# Altium footprint library W 稳压管.PcbLib: 5 footprints
Each footprint in its own frame and in the unit in brackets; x right, y up, seen from the top. Pads: shape width x height; smd on the part's side, far side on the other; paste and mask are expansions set on the pad; w line width, h text height; cw(c..) or ccw(c..) is an arc to the next point about the centre after c.
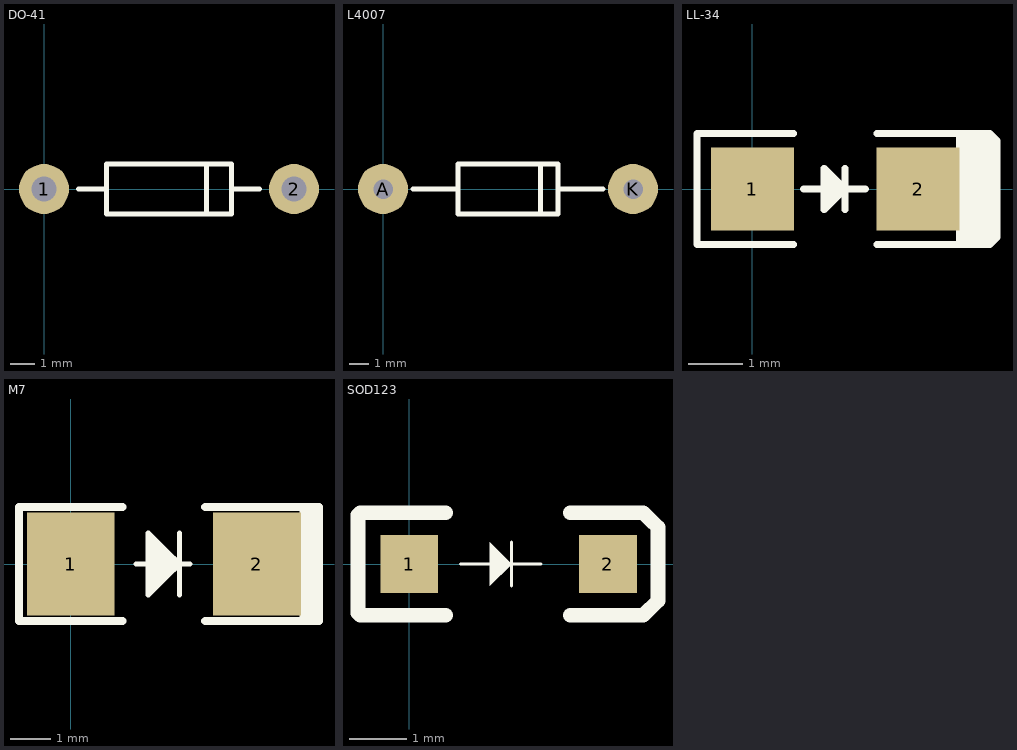
[diagram p0: the footprints below, top view; thin cyan lines are the x and y axes]

## DO-41 [mil] "二极管"
height 220.47
pads (2):
  round 80 hole 40: 1(0,0) 2(400,0)
Top Overlay:
  lines w8: 55,0 100,0 ; 260,-40 260,40 ; 300,0 345,0 ; 100,-40 300,-40 300,40 100,40 100,-40

## L4007 [mil]
pads (2):
  round 100 hole 39: A(0,0) K(500,0)
Top Overlay:
  lines w10: 60,0 150,0 ; 315,-50 315,50 ; 350,0 440,0 ; 150,-50 350,-50 350,50 150,50 150,-50

## LL-34 [mil] "贴片二极管"
pads (2):
  rect 60x60 smd: 1(0,0) 2(120,0)
Top Overlay:
  lines w5: 30,-40 -40,-40 -40,40 30,40 ; 37,0 82,0 ; 57,-10 57,10 ; 62,-5 62,5 ; 67,-15 67,15 ; 90,-40 172,-40 ; 90,40 172,40 ; 150,-40 150,40 ; 154,-40 154,40 ; 158,-40 158,40 ; 163,-40 163,40 ; 167,-40 167,40 ; 172,-40 177,-35 177,35 172,40 ; 172,-40 172,40 ; 52,-15 52,15 67,0 52,-15

## M7 [mil]
pads (2):
  rect 85x100 smd: 1(0,0) 2(180,0)
Top Overlay:
  lines w5: 62.94,0 115,0 ; 80,-25 80,25 ; 85,-20 85,20 ; 90,-15 90,15 ; 95,-10 95,10 ; 100,-5 100,5 ; 105,-30 105,30 ; 75,-30 75,30 105,0 75,-30
  lines w8: 50,-55 -50,-55 -50,55 50,55 ; 130,-55 240,-55 240,55 130,55 ; 225,-55 225,55 ; 230,-55 230,55 ; 235,-55 235,55

## SOD123 [mm]
pads (2):
  rect 1x1 smd: 1(0,0) 2(3.45,0)
Top Overlay:
  region: 1.397,0.381 1.397,-0.381 1.778,0
  lines w0.05: 0.889,0 1.397,0 ; 1.778,-0.381 1.778,0.381 ; 1.778,0 2.286,0
  lines w0.254: 0.635,-0.889 -0.85,-0.889 -0.889,-0.85 -0.889,0.85 -0.85,0.889 0.635,0.889 ; 2.794,-0.889 4.064,-0.889 4.318,-0.635 4.318,0.508 4.318,0.635 4.191,0.762 4.064,0.889 2.794,0.889